# EAGLE library part DIPSWICH-4 (library NASA_LIB)
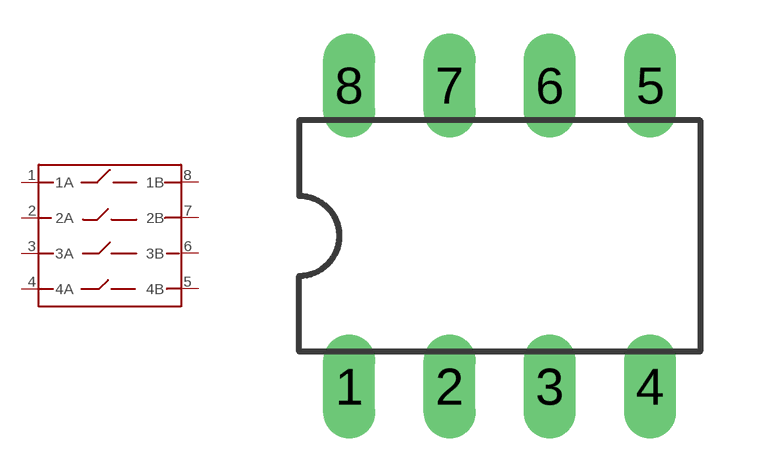
[diagram p19: symbol with the pads of DIL-8; footprint DIL-8]

Designator prefix -

## DIPSWICH-4  [DIL-8]
1  1A
2  2A
3  3A
4  4A
5  4B
6  3B
7  2B
8  1B

## Footprint DIL-8 (pad centres in mm)
drill 0.813 long: 1 -3.81,-3.81; 2 -1.27,-3.81; 3 1.27,-3.81; 4 3.81,-3.81; 5 3.81,3.81; 6 1.27,3.81; 7 -1.27,3.81; 8 -3.81,3.81